# EAGLE library part P8X32 (library MF_Examples)
Manufacturer Part #:P8X32 Manufacturer: Parallax Description:32-bit Microcontrollers - Propeller Chip Datasheet: Link <http://www.parallax.com/sites/default/files/downloads/P8X32A-Propeller-Datasheet-v1.4.0_0.pdf>
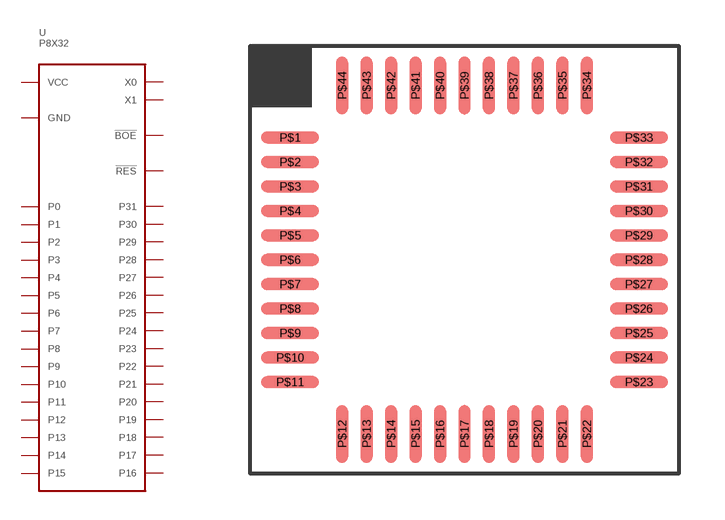
[diagram p1: symbol with the pads of LQFP44; footprint LQFP44]

Designator prefix U

## P8X32LQFP44 (HOUSEPART: NO; MPN: P8X32A-Q44; POPULATE: 1; URL: https://www.parallax.com/sites/default/files/downloads/P8X32A-Propeller-Datasheet-v1.4.0_0.pdf; VALUE: P8X32A-Q44)  [LQFP44]
P$1  P4
P$2  P5
P$3  P6
P$4  P7
P$5  GND  pwr
P$6  !BOE  in
P$7  !RES
P$8  VCC  pwr
P$9  P8
P$10  P9
P$11  P10
P$12  P11
P$13  P12
P$14  P13
P$15  P14
P$16  P15
P$17  GND  pwr
P$18  VCC  pwr
P$19  P16
P$20  P17
P$21  P18
P$22  P19
P$23  P20
P$24  P21
P$25  P22
P$26  P23
P$27  GND  pwr
P$28  X1  in
P$29  X0  out
P$30  VCC  pwr
P$31  P24
P$32  P25
P$33  P26
P$34  P27
P$35  P28
P$36  P29
P$37  P30
P$38  P31
P$39  GND  pwr
P$40  VCC  pwr
P$41  P0
P$42  P1
P$43  P2
P$44  P3

## Footprint LQFP44 (pad centres in mm)
smd 1.9 x 0.4: P$1 -5.7,4; P$2 -5.7,3.2; P$3 -5.7,2.4; P$4 -5.7,1.6; P$5 -5.7,0.8; P$6 -5.7,0; P$7 -5.7,-0.8; P$8 -5.7,-1.6; P$9 -5.7,-2.4; P$10 -5.7,-3.2; P$11 -5.7,-4; P$23 5.7,-4; P$24 5.7,-3.2; P$25 5.7,-2.4; P$26 5.7,-1.6; P$27 5.7,-0.8; P$28 5.7,0; P$29 5.7,0.8; P$30 5.7,1.6; P$31 5.7,2.4; P$32 5.7,3.2; P$33 5.7,4
smd 0.4 x 1.9: P$12 -4,-5.7; P$13 -3.2,-5.7; P$14 -2.4,-5.7; P$15 -1.6,-5.7; P$16 -0.8,-5.7; P$17 0,-5.7; P$18 0.8,-5.7; P$19 1.6,-5.7; P$20 2.4,-5.7; P$21 3.2,-5.7; P$22 4,-5.7; P$34 4,5.7; P$35 3.2,5.7; P$36 2.4,5.7; P$37 1.6,5.7; P$38 0.8,5.7; P$39 0,5.7; P$40 -0.8,5.7; P$41 -1.6,5.7; P$42 -2.4,5.7; P$43 -3.2,5.7; P$44 -4,5.7